# Altium schematic symbol library R1966ABLKBLKEPRED.SchLib: 1 symbol
Pins are listed as number, name and electrical type; pins without a type are passive.

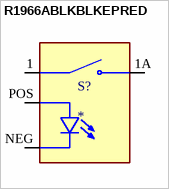
[diagram p0: symbol R1966ABLKBLKEPRED]

## R1966ABLKBLKEPRED
designator S?
MP: R1966ABLKBLKEPRED; MF: {'manufacturer': u'E-Switch'}; Availability: Unavailable; Value: *; Price: None; Package: None
footprint SW_R1966ABLKBLKEPRED
pins: 1, 1A, NEG C, POS A